# Altium schematic symbol library Schlib1.SchLib: 10 symbols
Pins are listed as number, name and electrical type; pins without a type are passive.

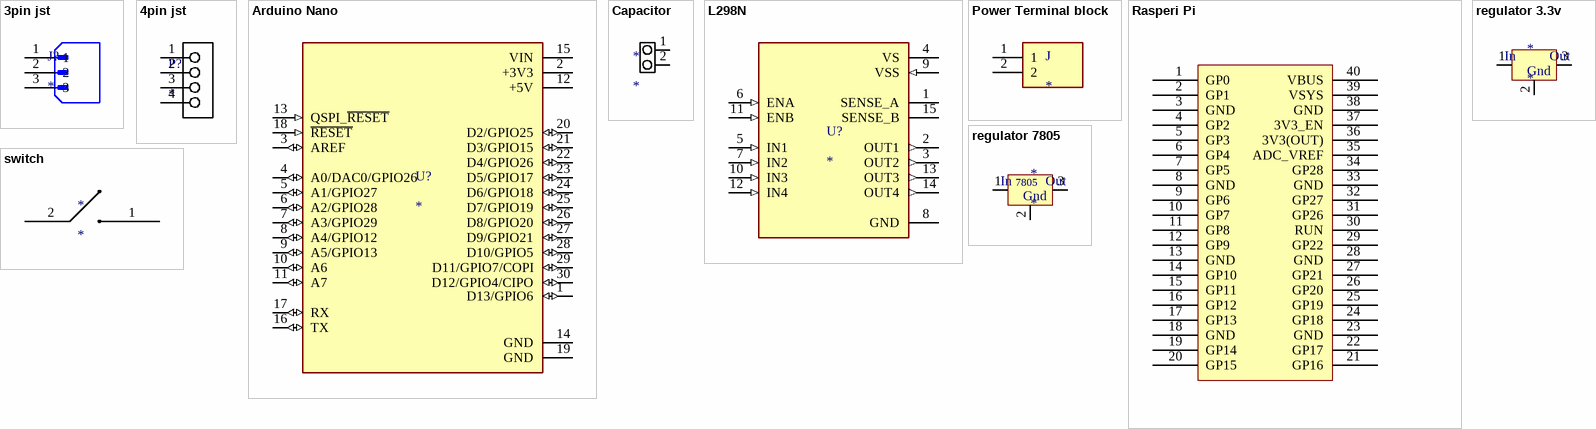
[diagram p0: symbols 3pin jst to switch]

## 3pin jst
designator J?
Connector Header Through Hole 3 position 0.098 (2.50mm); MP: B3B-XH-A(LF)(SN); MF: JST Sales; Check_prices: https://www.snapeda.com/parts/B3B-XH-A(LF)(SN)/JST+Sales+America+Inc./view-part/?ref=eda; Value: *; Availability: In Stock; Price: None; Package: None; SnapEDA_Link: https://www.snapeda.com/parts/B3B-XH-A(LF)(SN)/JST+Sales+America+Inc./view-part/?ref=snap; Purchase-URL: https://pricing.snapeda.com/search/part/B3B-XH-A(LF)(SN)/?ref=eda
footprint 3pin jst
pins: 1, 2, 3

## 4pin jst
designator P?
Connector Header Through Hole 4 position 0.079 (2.00mm); MP: B4B-PH-K; MF: JST; SnapEDA_Link: https://www.snapeda.com/parts/B4B-PH-K/JST/view-part/?ref=snap; Package: None; Check_prices: https://www.snapeda.com/parts/B4B-PH-K/JST/view-part/?ref=eda; Purchase-URL: https://pricing.snapeda.com/search/part/B4B-PH-K/?ref=eda; Price: None; Value: *; Availability: In Stock
footprint 4pin jst
pins: 1, 2, 3, 4

## Arduino Nano
designator U?
NINA-W102, RP2040 Arduino Nano RP2040 Connect with Headers series ARMÂ® CortexÂ®-M0+ MCU 32-Bit Embedded Evaluation Board; MP: ABX00053; Value: *; SnapEDA_Link: https://www.snapeda.com/parts/ABX00053/Arduino/view-part/?ref=snap; MF: Arduino; Purchase-URL: https://pricing.snapeda.com/search/part/ABX00053/?ref=eda; Check_prices: https://www.snapeda.com/parts/ABX00053/Arduino/view-part/?ref=eda; Digi-Key_Part_Number: 1050-ABX00053-ND; Package: None
footprint Arduino Nano
pins: 1 D13/GPIO6 (io), 2 +3V3 (power), 3 AREF (io), 4 A0/DAC0/GPIO26 (io), 5 A1/GPIO27 (io), 6 A2/GPIO28 (io), 7 A3/GPIO29 (io), 8 A4/GPIO12 (io), 9 A5/GPIO13 (io), 10 A6 (io), 11 A7 (io), 12 +5V (power), 13 QSPI_~{RESET} (in), 14 GND (power), 15 VIN (power), 16 TX (io), 17 RX (io), 18 ~{RESET} (in), 19 GND (power), 20 D2/GPIO25 (io), 21 D3/GPIO15 (io), 22 D4/GPIO26 (io), 23 D5/GPIO17 (io), 24 D6/GPIO18 (io), 25 D7/GPIO19 (io), 26 D8/GPIO20 (io), 27 D9/GPIO21 (io), 28 D10/GPIO5 (io), 29 D11/GPIO7/COPI (io), 30 D12/GPIO4/CIPO (io)

## Capacitor
designator *
footprint Capacitor
pins: 1, 2

## L298N
designator U?
Dual Full Bridge Motor Driver 15-Pin(15+Tab) MULTIWATT V Tube; MP: L298N; Availability: Unavailable; Package: None; Value: *; Price: None
footprint L298N
pins: 1 SENSE_A, 2 OUT1 (out), 3 OUT2 (out), 4 VS (power), 5 IN1 (in), 6 ENA (in), 7 IN2 (in), 8 GND (power), 9 VSS (in), 10 IN3 (in), 11 ENB (in), 12 IN4 (in), 13 OUT3 (out), 14 OUT4 (out), 15 SENSE_B

## Power Terminal block
designator J
Conn Terminal Block 2 POS 9.53mm Solder ST Thru-Hole 25A/Contact; MF: TE Connectivity / AMP; MP: 4-1437652-6; SnapEDA_Link: https://www.snapeda.com/parts/4-1437652-6/TE%20Connectivity%20/%20AMP/view-part/2382815/?ref=snap; Availability: Unavailable; Price: None; EU_RoHS_Compliance: Compliant; Value: *; Package: None; TE_purchase_URL: https://www.te.com/usa-en/product-4-1437652-6.html?te_bu=Cor&te_type=disp&te_campaign=seda_glo_cor-seda-global-disp-prtnr-fy19-seda-model-bom-cta_sma-317_1&elqCampaignId=32493
footprint Power Terminal block
pins: 1, 2

## Rasperi Pi
designator *
footprint Rasperi Pi
pins: 1 GP0, 2 GP1, 3 GND, 4 GP2, 5 GP3, 6 GP4, 7 GP5, 8 GND, 9 GP6, 10 GP7, 11 GP8, 12 GP9, 13 GND, 14 GP10, 15 GP11, 16 GP12, 17 GP13, 18 GND, 19 GP14, 20 GP15, 21 GP16, 22 GP17, 23 GND, 24 GP18, 25 GP19, 26 GP20, 27 GP21, 28 GND, 29 GP22, 30 RUN, 31 GP26, 32 GP27, 33 GND, 34 GP28, 35 ADC_VREF, 36 3V3(OUT), 37 3V3_EN, 38 GND, 39 VSYS, 40 VBUS

## regulator 3.3v
designator *
footprint Regulator 3.3V
pins: 1 input, 2 Ground, 3 Output
text: In; Out; Gnd

## regulator 7805
designator *
footprint Regulator 7805
pins: 1 input, 2 Ground, 3 Output
text: In; 7805; Out; Gnd

## switch
designator *
footprint switch
pins: 1, 2